# Altium footprint library NCV7729.PcbLib: 1 footprints
Each footprint in its own frame and in the unit in brackets; x right, y up, seen from the top. Pads: shape width x height; smd on the part's side, far side on the other; paste and mask are expansions set on the pad; w line width, h text height; cw(c..) or ccw(c..) is an arc to the next point about the centre after c.
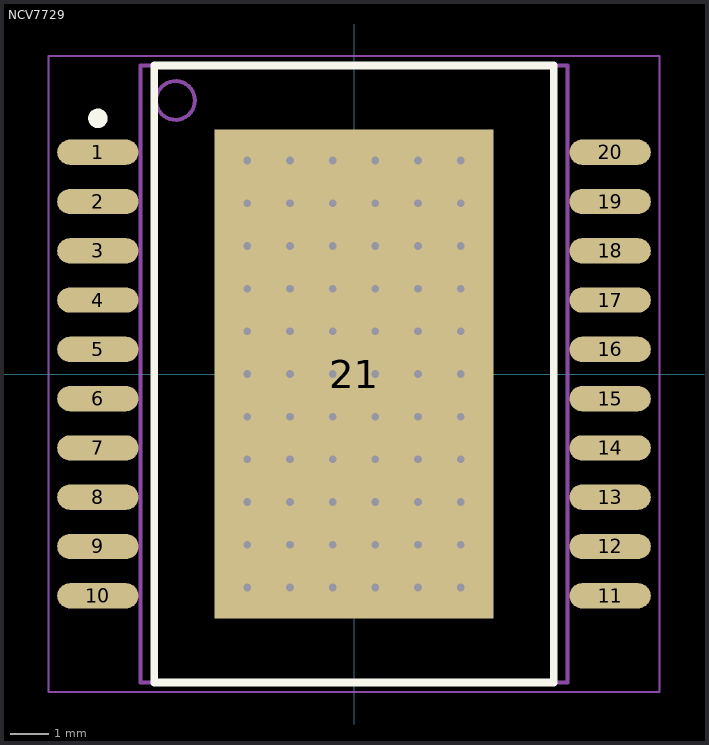
[diagram p0: the footprint, top view; thin cyan lines are the x and y axes]

## NCV7729 [mm] "SOP, 20-Leads, Body 15.90x11.00mm, Pitch 1.27mm, Thermal Pad 12.60.2x7.20.2mm, IPC Medium Density"
height 3.4
pads (21):
  oval 2.1x0.65 smd: 1(-6.6,5.715) 2(-6.6,4.445) 3(-6.6,3.175) 4(-6.6,1.905) 5(-6.6,0.635) 6(-6.6,-0.635) 7(-6.6,-1.905) 8(-6.6,-3.175) 9(-6.6,-4.445) 10(-6.6,-5.715) 11(6.6,-5.715) 12(6.6,-4.445) 13(6.6,-3.175) 14(6.6,-1.905) 15(6.6,-0.635) 16(6.6,0.635) 17(6.6,1.905) 18(6.6,3.175) 19(6.6,4.445) 20(6.6,5.715)
  rect 7.2x12.6 smd: 21(0,0)
via -2.75,5.5 diameter 0.5 hole 0.2
via -1.65,5.5 diameter 0.5 hole 0.2
via -0.55,5.5 diameter 0.5 hole 0.2
via 0.55,5.5 diameter 0.5 hole 0.2
via 1.65,5.5 diameter 0.5 hole 0.2
via 2.75,5.5 diameter 0.5 hole 0.2
via -2.75,4.4 diameter 0.5 hole 0.2
via -1.65,4.4 diameter 0.5 hole 0.2
via -0.55,4.4 diameter 0.5 hole 0.2
via 0.55,4.4 diameter 0.5 hole 0.2
via 1.65,4.4 diameter 0.5 hole 0.2
via 2.75,4.4 diameter 0.5 hole 0.2
via -2.75,3.3 diameter 0.5 hole 0.2
via -1.65,3.3 diameter 0.5 hole 0.2
via -0.55,3.3 diameter 0.5 hole 0.2
via 0.55,3.3 diameter 0.5 hole 0.2
via 1.65,3.3 diameter 0.5 hole 0.2
via 2.75,3.3 diameter 0.5 hole 0.2
via -2.75,2.2 diameter 0.5 hole 0.2
via -1.65,2.2 diameter 0.5 hole 0.2
via -0.55,2.2 diameter 0.5 hole 0.2
via 0.55,2.2 diameter 0.5 hole 0.2
via 1.65,2.2 diameter 0.5 hole 0.2
via 2.75,2.2 diameter 0.5 hole 0.2
via -2.75,1.1 diameter 0.5 hole 0.2
via -1.65,1.1 diameter 0.5 hole 0.2
via -0.55,1.1 diameter 0.5 hole 0.2
via 0.55,1.1 diameter 0.5 hole 0.2
via 1.65,1.1 diameter 0.5 hole 0.2
via 2.75,1.1 diameter 0.5 hole 0.2
via -2.75,0 diameter 0.5 hole 0.2
via -1.65,0 diameter 0.5 hole 0.2
via -0.55,0 diameter 0.5 hole 0.2
via 0.55,0 diameter 0.5 hole 0.2
via 1.65,0 diameter 0.5 hole 0.2
via 2.75,0 diameter 0.5 hole 0.2
via -2.75,-1.1 diameter 0.5 hole 0.2
via -1.65,-1.1 diameter 0.5 hole 0.2
via -0.55,-1.1 diameter 0.5 hole 0.2
via 0.55,-1.1 diameter 0.5 hole 0.2
via 1.65,-1.1 diameter 0.5 hole 0.2
via 2.75,-1.1 diameter 0.5 hole 0.2
via -2.75,-2.2 diameter 0.5 hole 0.2
via -1.65,-2.2 diameter 0.5 hole 0.2
via -0.55,-2.2 diameter 0.5 hole 0.2
via 0.55,-2.2 diameter 0.5 hole 0.2
via 1.65,-2.2 diameter 0.5 hole 0.2
via 2.75,-2.2 diameter 0.5 hole 0.2
via -2.75,-3.3 diameter 0.5 hole 0.2
via -1.65,-3.3 diameter 0.5 hole 0.2
via -0.55,-3.3 diameter 0.5 hole 0.2
via 0.55,-3.3 diameter 0.5 hole 0.2
via 1.65,-3.3 diameter 0.5 hole 0.2
via 2.75,-3.3 diameter 0.5 hole 0.2
via -2.75,-4.4 diameter 0.5 hole 0.2
via -1.65,-4.4 diameter 0.5 hole 0.2
via -0.55,-4.4 diameter 0.5 hole 0.2
via 0.55,-4.4 diameter 0.5 hole 0.2
via 1.65,-4.4 diameter 0.5 hole 0.2
via 2.75,-4.4 diameter 0.5 hole 0.2
via -2.75,-5.5 diameter 0.5 hole 0.2
via -1.65,-5.5 diameter 0.5 hole 0.2
via -0.55,-5.5 diameter 0.5 hole 0.2
via 0.55,-5.5 diameter 0.5 hole 0.2
via 1.65,-5.5 diameter 0.5 hole 0.2
via 2.75,-5.5 diameter 0.5 hole 0.2
Top Overlay:
  circle w0.25: c-6.6,6.59 r0.125
  lines w0.2: -5.15,-7.95 -5.15,7.95 5.15,7.95 5.15,-7.95 -5.15,-7.95
Mechanical 13:
  circle w0.1: c-4.6,7.05 r0.5
  lines w0.1: -5.5,-7.95 -5.5,7.95 5.5,7.95 5.5,-7.95 -5.5,-7.95
Mechanical 15:
  lines w0.05: -7.875,-8.2 -7.875,8.2 7.875,8.2 7.875,-8.2 -7.875,-8.2
  lines w0.1: -0.5,0 0.5,0 ; 0,-0.5 0,0.5
3D body: height 3.4, standoff 0.1, extent -5.5,-7.95 5.5,7.95